# Altium schematic symbol library Connector_Schematics.SchLib: 3 symbols
Pins are listed as number, name and electrical type; pins without a type are passive.

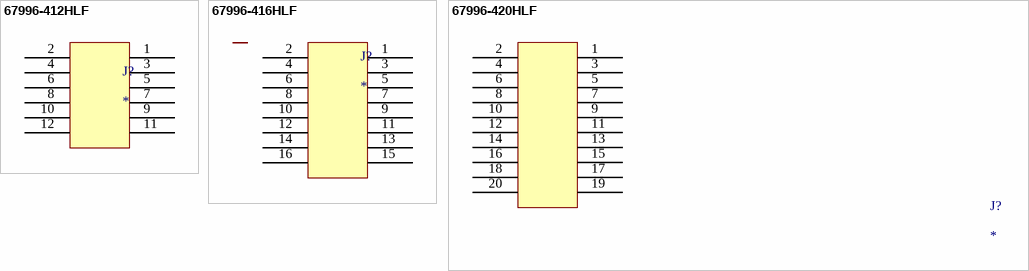
[diagram p0: symbols 67996-412HLF to 67996-420HLF]

## 67996-412HLF
designator J?
CONN HEADER 12POS .100 STR TIN; Supplier 1: Octopart; Supplier Part Number 1: Mouser - 649-67996-412HLF
footprint 67996-412HLF (CONN HEADER 12POS .100 STR TIN)
pins: 1, 2, 3, 4, 5, 6, 7, 8, 9, 10, 11, 12

## 67996-416HLF
designator J?
CONN HEADER 16POS .100 STR TIN; Supplier 1: Octopart; Supplier Part Number 1: Mouser - 649-67996-416HLF
footprint 67996-416HLF (CONN HEADER 16POS .100 STR TIN)
pins: 1, 2, 3, 4, 5, 6, 7, 8, 9, 10, 11, 12, 13, 14, 15, 16

## 67996-420HLF
designator J?
CONN HEADER 20POS .100 STR TIN; Supplier 1: Octopart; Supplier Part Number 1: Mouser - 649-67996-420HLF
footprint 67996-420HLF (CONN 20 PIN 0.100 IN)
pins: 1, 2, 3, 4, 5, 6, 7, 8, 9, 10, 11, 12, 13, 14, 15, 16, 17, 18, 19, 20